# EAGLE library part XR-1091P (library exar)
Equalizer FILTER
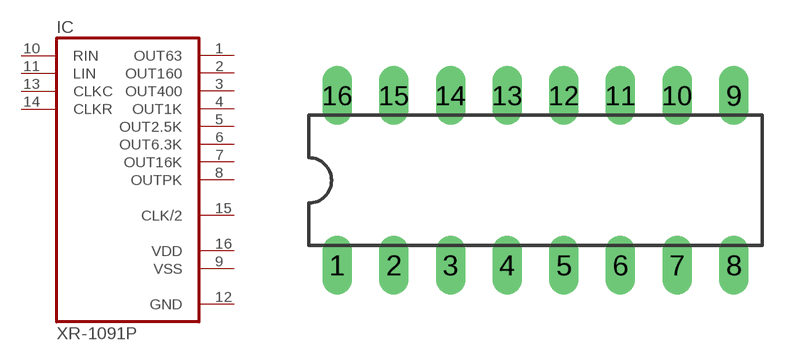
[diagram p102: symbol with the pads of DIL16; footprint DIL16]

Designator prefix IC

## XR-1091P (OC_FARNELL: unknown; OC_NEWARK: unknown)  [DIL16]
1  OUT63  out
2  OUT160  out
3  OUT400  out
4  OUT1K  out
5  OUT2.5K  out
6  OUT6.3K  out
7  OUT16K  out
8  OUTPK  out
9  VSS  pwr
10  RIN  in
11  LIN  in
12  GND  pwr
13  CLKC  in
14  CLKR  in
15  CLK/2  out
16  VDD  pwr

## Footprint DIL16 (pad centres in mm)
Dual In Line Package
drill 0.813 long: 1 -8.89,-3.81; 2 -6.35,-3.81; 3 -3.81,-3.81; 4 -1.27,-3.81; 5 1.27,-3.81; 6 3.81,-3.81; 7 6.35,-3.81; 8 8.89,-3.81; 9 8.89,3.81; 10 6.35,3.81; 11 3.81,3.81; 12 1.27,3.81; 13 -1.27,3.81; 14 -3.81,3.81; 15 -6.35,3.81; 16 -8.89,3.81